# Altium footprint library Corner.PcbLib: 1 footprints
Each footprint in its own frame and in the unit in brackets; x right, y up, seen from the top. Pads: shape width x height; smd on the part's side, far side on the other; paste and mask are expansions set on the pad; w line width, h text height; cw(c..) or ccw(c..) is an arc to the next point about the centre after c.
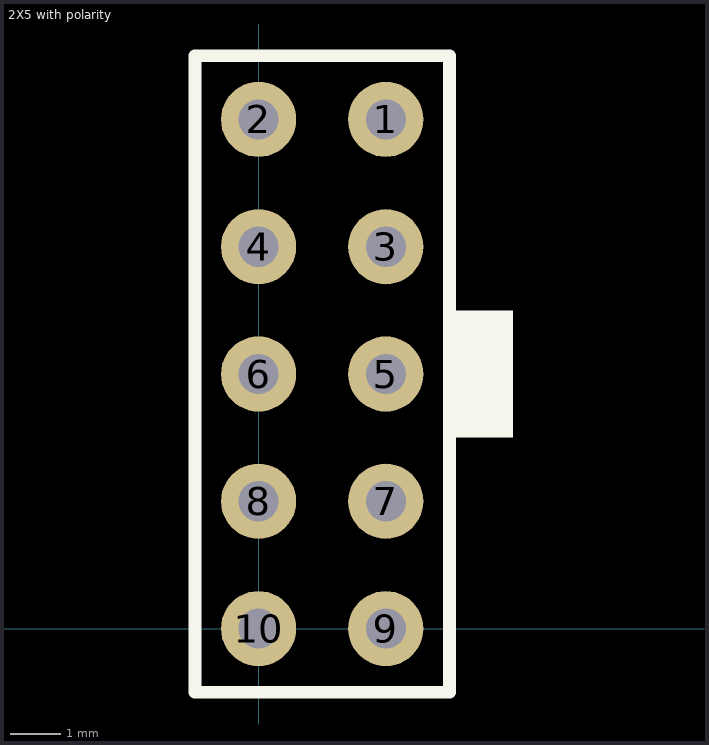
[diagram p0: the footprint, top view; thin cyan lines are the x and y axes]

## 2X5 with polarity [mm]
pads (10):
  round 1.5 hole 0.8: 1(2.54,10.16) 2(0,10.16) 3(2.54,7.62) 4(0,7.62) 5(2.54,5.08) 6(0,5.08) 7(2.54,2.54) 8(0,2.54) 9(2.54,0) 10(0,0)
Top Overlay:
  rectangle: 3.81,3.81 5.08,6.35
  lines w0.254: -1.27,-1.27 3.81,-1.27 3.81,11.43 -1.27,11.43 -1.27,-1.27